# Altium footprint library my footprints lybrary.PcbLib: 12 footprints
Each footprint in its own frame and in the unit in brackets; x right, y up, seen from the top. Pads: shape width x height; smd on the part's side, far side on the other; paste and mask are expansions set on the pad; w line width, h text height; cw(c..) or ccw(c..) is an arc to the next point about the centre after c.
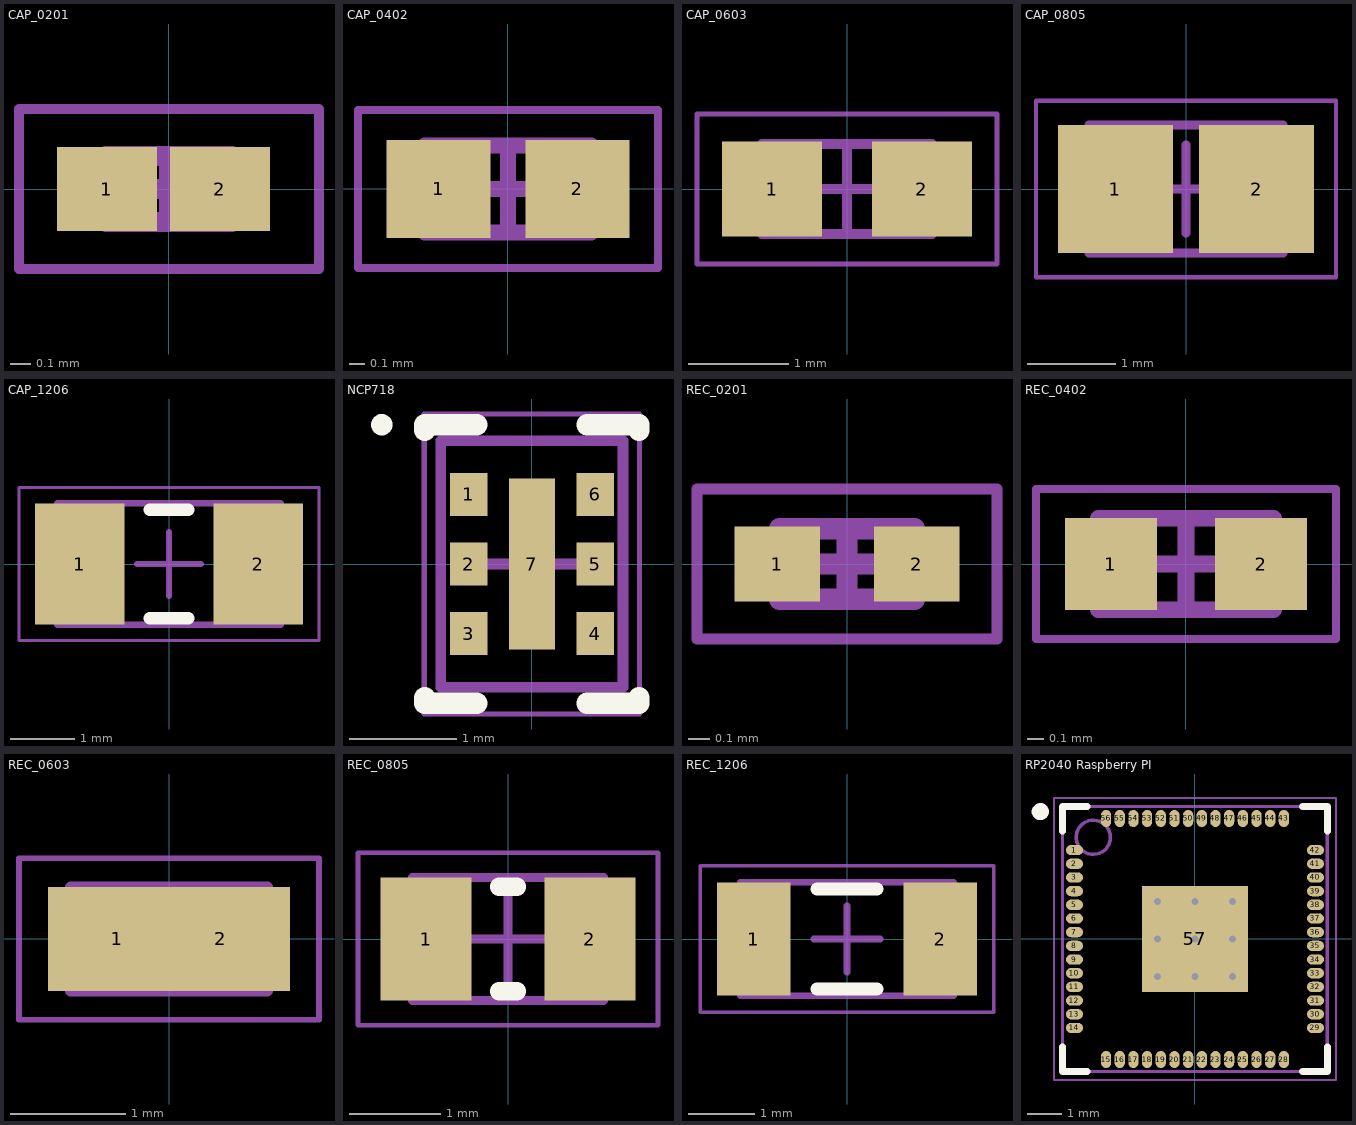
[diagram p0: the footprints below, top view; thin cyan lines are the x and y axes]

## CAP_0201 [mm] "Chip Capacitor, 2-Leads, Body 0,60x0,30mm, IPC Medium Density"
height 0.33
pads (2):
  rect 0.5x0.42 smd: 1(-0.31,0) 2(0.254,0)
Mechanical 13:
  lines w0.1: -0.315,-0.165 -0.315,0.165 0.315,0.165 0.315,-0.165 -0.315,-0.165
Mechanical 15:
  lines w0.05: -0.75,-0.4 -0.75,0.4 0.75,0.4 0.75,-0.4 -0.75,-0.4
  lines w0.1: -0.165,0 0.165,0 ; 0,-0.165 0,0.165
3D body "CAP_0201.step": height 0.33, standoff 0, extent -0.315,-0.165 0.315,0.165

## CAP_0402 [mm] "Chip Capacitor, 2-Leads, Body 1,00x0,50mm, IPC Medium Density"
height 0.55
pads (2):
  rect 0.66x0.62 smd: 1(-0.44,0) 2(0.44,0)
Mechanical 13:
  lines w0.1: -0.525,-0.275 0.525,-0.275 0.525,0.275 -0.525,0.275 -0.525,-0.275
Mechanical 15:
  lines w0.05: -0.95,-0.5 0.95,-0.5 0.95,0.5 -0.95,0.5 -0.95,-0.5
  lines w0.1: -0.275,0 0.275,0 ; 0,-0.275 0,0.275
3D body "CAP_0402.step": height 0.55, standoff 0, extent -0.525,-0.275 0.525,0.275

## CAP_0603 [mm] "Chip Capacitor, 2-Leads, Body 1,60x0,80mm, IPC Medium Density"
height 0.9
pads (2):
  rect 1x0.95 smd: 1(-0.75,0) 2(0.75,0)
Mechanical 13:
  lines w0.1: -0.85,-0.45 -0.85,0.45 0.85,0.45 0.85,-0.45 -0.85,-0.45
Mechanical 15:
  lines w0.05: -1.5,-0.75 -1.5,0.75 1.5,0.75 1.5,-0.75 -1.5,-0.75
  lines w0.1: -0.45,0 0.45,0 ; 0,-0.45 0,0.45
3D body "CAP_0603.step": height 0.9, standoff 0, extent -0.85,-0.45 0.85,0.45

## CAP_0805 [mm] "Chip Capacitor, 2-Leads, Body 2,00x1,25mm, IPC Medium Density"
height 1.45
pads (2):
  rect 1.3x1.45 smd: 1(-0.8,0) 2(0.8,0)
Mechanical 13:
  lines w0.1: -1.1,-0.725 1.1,-0.725 1.1,0.725 -1.1,0.725 -1.1,-0.725
Mechanical 15:
  lines w0.05: -1.7,-1 1.7,-1 1.7,1 -1.7,1 -1.7,-1
  lines w0.1: -0.5,0 0.5,0 ; 0,-0.5 0,0.5
3D body "CAP_0805.step": height 1.45, standoff 0, extent -1.1,-0.725 1.1,0.725

## CAP_1206 [mm] "Chip Capacitor, 2-Leads, Body 3,20x1,60mm, IPC Medium Density"
height 1.9
pads (2):
  rect 1.4x1.9 smd: 1(-1.4,0) 2(1.4,0)
Top Overlay:
  lines w0.2: -0.3,-0.85 0.3,-0.85 ; -0.3,0.85 0.3,0.85
Mechanical 13:
  lines w0.1: -1.75,-0.95 -1.75,0.95 1.75,0.95 1.75,-0.95 -1.75,-0.95
Mechanical 15:
  lines w0.05: -2.35,-1.2 -2.35,1.2 2.35,1.2 2.35,-1.2 -2.35,-1.2
  lines w0.1: -0.5,0 0.5,0 ; 0,-0.5 0,0.5
3D body "CAP_1206.step": height 1.9, standoff 0, extent -1.75,-0.95 1.75,0.95

## NCP718 [mm] "PSON, 6-Leads, Body 2,30x1,70mm, Pitch 0,65mm, Thermal Pad 1,60x0,43mm, IPC Medium Density"
height 0.8
pads (7):
  rect 0.35x0.4 smd: 1(-0.59,0.65) 2(-0.59,0) 3(-0.59,-0.65) 4(0.59,-0.65) 5(0.59,0) 6(0.59,0.65)
  rect 0.43x1.6 smd: 7(0,0)
Top Overlay:
  circle w0.1: c-1.4,1.3 r0.05
  lines w0.2: -1,-1.25 -1,-1.3 -0.515,-1.3 ; -1,1.25 -1,1.3 -0.515,1.3 ; 0.515,-1.3 1,-1.3 1,-1.25 ; 0.515,1.3 1,1.3 1,1.25
Mechanical 13:
  lines w0.1: -0.85,-1.15 0.85,-1.15 0.85,1.15 -0.85,1.15 -0.85,-1.15
Mechanical 15:
  lines w0.05: -1.005,-1.4 1.005,-1.4 1.005,1.4 -1.005,1.4 -1.005,-1.4
  lines w0.1: -0.5,0 0.5,0 ; 0,-0.5 0,0.5
3D body "NCP718.step": height 0.8, standoff 0, extent -0.851,-1.15 0.851,1.15

## REC_0201 [mm] "Chip Resistor, 2-Leads, Body 0,60x0,30mm, IPC Medium Density"
height 0.23
pads (2):
  rect 0.4x0.35 smd: 1(-0.325,0) 2(0.325,0)
Mechanical 13:
  lines w0.1: -0.315,-0.165 -0.315,0.165 0.315,0.165 0.315,-0.165 -0.315,-0.165
Mechanical 15:
  lines w0.05: -0.7,-0.35 -0.7,0.35 0.7,0.35 0.7,-0.35 -0.7,-0.35
  lines w0.1: -0.165,0 0.165,0 ; 0,-0.165 0,0.165
3D body: height 0.23, standoff 0, extent -0.215,-0.165 0.215,0.165
3D body: height 0.23, standoff 0, extent -0.315,-0.165 -0.215,0.165
3D body: height 0.23, standoff 0, extent 0.215,-0.165 0.315,0.165

## REC_0402 [mm] "Chip Resistor, 2-Leads, Body 1,00x0,50mm, IPC Medium Density"
height 0.4
pads (2):
  rect 0.55x0.55 smd: 1(-0.45,0) 2(0.45,0)
Mechanical 13:
  lines w0.1: -0.525,-0.275 -0.525,0.275 0.525,0.275 0.525,-0.275 -0.525,-0.275
Mechanical 15:
  lines w0.05: -0.9,-0.45 -0.9,0.45 0.9,0.45 0.9,-0.45 -0.9,-0.45
  lines w0.1: -0.275,0 0.275,0 ; 0,-0.275 0,0.275
3D body "REC_0402.step": height 0.4, standoff 0, extent -0.525,-0.275 0.525,0.275

## REC_0603 [mm] "Chip Resistor, 2-Leads, Body 1,10x0,80mm, IPC Medium Density"
height 0.55
pads (2):
  rect 1.2x0.9 smd: 1(-0.45,0) 2(0.45,0)
Mechanical 13:
  lines w0.1: -0.85,-0.45 0.85,-0.45 0.85,0.45 -0.85,0.45 -0.85,-0.45
Mechanical 15:
  lines w0.05: -1.3,-0.7 1.3,-0.7 1.3,0.7 -1.3,0.7 -1.3,-0.7
  lines w0.1: -0.45,0 0.45,0 ; 0,-0.45 0,0.45
3D body "REC_0603.step": height 0.55, standoff 0, extent -0.85,-0.45 0.85,0.45

## REC_0805 [mm] "Chip Resistor, 2-Leads, Body 2,00x1,25mm, IPC Medium Density"
height 0.6
pads (2):
  rect 1x1.35 smd: 1(-0.9,0) 2(0.9,0)
Top Overlay:
  lines w0.2: -0.1,-0.575 0.1,-0.575 ; -0.1,0.575 0.1,0.575
Mechanical 13:
  lines w0.1: -1.05,-0.675 1.05,-0.675 1.05,0.675 -1.05,0.675 -1.05,-0.675
Mechanical 15:
  lines w0.05: -1.65,-0.95 1.65,-0.95 1.65,0.95 -1.65,0.95 -1.65,-0.95
  lines w0.1: -0.5,0 0.5,0 ; 0,-0.5 0,0.5
3D body "REC_0805.step": height 0.6, standoff 0, extent -1.05,-0.675 1.05,0.675

## REC_1206 [mm] "Chip Resistor, 2-Leads, Body 3,10x1,60mm, IPC Medium Density"
height 0.65
pads (2):
  rect 1.1x1.7 smd: 1(-1.4,0) 2(1.4,0)
Top Overlay:
  lines w0.2: -0.45,-0.75 0.45,-0.75 ; -0.45,0.75 0.45,0.75
Mechanical 13:
  lines w0.1: -1.6,-0.85 1.6,-0.85 1.6,0.85 -1.6,0.85 -1.6,-0.85
Mechanical 15:
  lines w0.05: -2.2,-1.1 2.2,-1.1 2.2,1.1 -2.2,1.1 -2.2,-1.1
  lines w0.1: -0.5,0 0.5,0 ; 0,-0.5 0,0.5
3D body: height 0.65, standoff 0, extent 1.15,-0.85 1.6,0.85
3D body: height 0.65, standoff 0, extent -1.6,-0.85 -1.15,0.85
3D body: height 0.65, standoff 0, extent -1.15,-0.85 1.15,0.85

## RP2040 Raspberry PI [mm] "PQFN, 56-Leads, Body 7,75x7,75mm, Pitch 0,40mm, Thermal Pad 3,10x3,10mm, IPC Medium Density"
height 0.65
pads (57):
  oval 0.5x0.3 smd: 1(-3.525,2.6) 2(-3.525,2.2) 3(-3.525,1.8) 4(-3.525,1.4) 5(-3.525,1) 6(-3.525,0.6) 7(-3.525,0.2) 8(-3.525,-0.2) 9(-3.525,-0.6) 10(-3.525,-1) 11(-3.525,-1.4) 12(-3.525,-1.8) 13(-3.525,-2.2) 14(-3.525,-2.6) 29(3.525,-2.6) 30(3.525,-2.2) 31(3.525,-1.8) 32(3.525,-1.4) 33(3.525,-1) 34(3.525,-0.6) 35(3.525,-0.2) 36(3.525,0.2) 37(3.525,0.6) 38(3.525,1) 39(3.525,1.4) 40(3.525,1.8) 41(3.525,2.2) 42(3.525,2.6)
  oval 0.3x0.5 smd: 15(-2.6,-3.525) 16(-2.2,-3.525) 17(-1.8,-3.525) 18(-1.4,-3.525) 19(-1,-3.525) 20(-0.6,-3.525) 21(-0.2,-3.525) 22(0.2,-3.525) 23(0.6,-3.525) 24(1,-3.525) 25(1.4,-3.525) 26(1.8,-3.525) 27(2.2,-3.525) 28(2.6,-3.525) 43(2.6,3.525) 44(2.2,3.525) 45(1.8,3.525) 46(1.4,3.525) 47(1,3.525) 48(0.6,3.525) 49(0.2,3.525) 50(-0.2,3.525) 51(-0.6,3.525) 52(-1,3.525) 53(-1.4,3.525) 54(-1.8,3.525) 55(-2.2,3.525) 56(-2.6,3.525)
  rect 3.1x3.1 smd: 57(0,0)
via -1.1,1.1 diameter 0.5 hole 0.2
via 0,1.1 diameter 0.5 hole 0.2
via 1.1,1.1 diameter 0.5 hole 0.2
via -1.1,0 diameter 0.5 hole 0.2
via 0,0 diameter 0.5 hole 0.2
via 1.1,0 diameter 0.5 hole 0.2
via -1.1,-1.1 diameter 0.5 hole 0.2
via 0,-1.1 diameter 0.5 hole 0.2
via 1.1,-1.1 diameter 0.5 hole 0.2
Top Overlay:
  circle w0.25: c-4.525,3.725 r0.125
  lines w0.2: -3.875,-3.15 -3.875,-3.875 -3.15,-3.875 ; -3.875,3.15 -3.875,3.875 -3.15,3.875 ; 3.15,-3.875 3.875,-3.875 3.875,-3.15 ; 3.15,3.875 3.875,3.875 3.875,3.15
Mechanical 13:
  circle w0.1: c-2.975,2.975 r0.5
  lines w0.1: -3.875,-3.875 -3.875,3.875 3.875,3.875 3.875,-3.875 -3.875,-3.875
Mechanical 15:
  lines w0.05: -4.125,-4.125 -4.125,4.125 4.125,4.125 4.125,-4.125 -4.125,-4.125
  lines w0.1: -0.5,0 0.5,0 ; 0,-0.5 0,0.5
3D body "RP2040 Raspberry PI.step": height 0.65, standoff 0, extent -3.875,-3.875 3.875,3.875